# Altium footprint library 5040500591.PcbLib: 1 footprints
Each footprint in its own frame and in the unit in brackets; x right, y up, seen from the top. Pads: shape width x height; smd on the part's side, far side on the other; paste and mask are expansions set on the pad; w line width, h text height; cw(c..) or ccw(c..) is an arc to the next point about the centre after c.
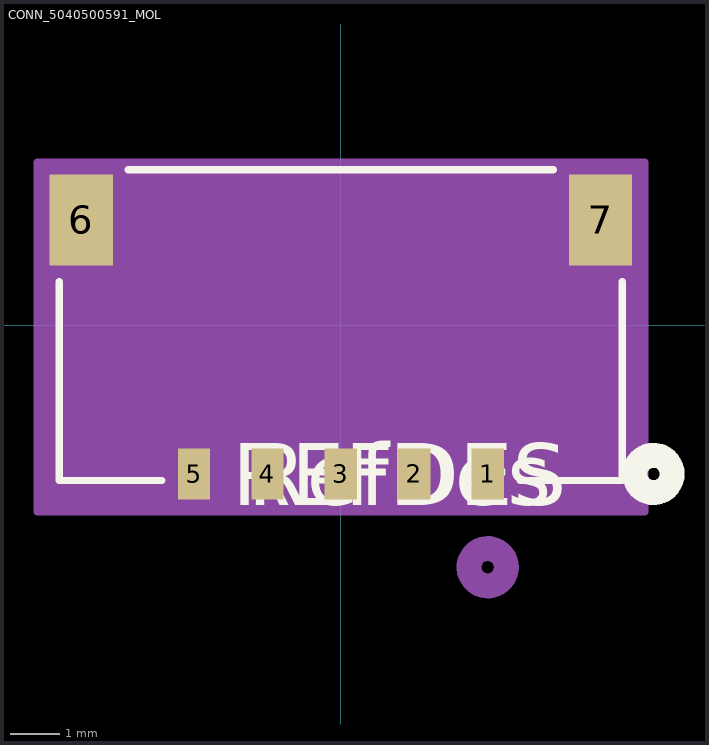
[diagram p0: the footprint, top view; thin cyan lines are the x and y axes]

## CONN_5040500591_MOL [mil]
pads (7):
  rect 26x41 smd paste+0 mask+0: 1(118.11,-119.76) 2(59.06,-119.76) 3(0,-119.76) 4(-59.06,-119.76) 5(-118.11,-119.76)
  rect 51x73 smd paste-36.5 mask-36.5: 6(-208.86,84.57) 7(208.86,84.57)
Top Overlay:
  circle w20: c251.5,-119.76 r15
  lines w6: -226.5,34.97 -226.5,-125 -144.21,-125 ; -170.86,125 170.86,125 ; 144.21,-125 226.5,-125 226.5,34.97
  text "RefDes" at -75,-144.76 h50
  text "REFDES" at -87.5,-144.76 h50
Bottom Overlay:
  circle w20: c251.5,-119.76 r15
Mechanical 13:
  circle w20: c118.11,-194.76 r15
  lines w1: -221.5,-120 221.5,-120 221.5,120 -221.5,120 -221.5,-120
  text "RefDes2" at -87.5,-144.76 h50
Mechanical 15:
  region: 244.36,131.07 -244.36,131.07 -244.36,-150.26 244.36,-150.26
  lines w6: -244.36,-150.26 -244.36,131.07 244.36,131.07 244.36,-150.26 -244.36,-150.26
3D body "5040500591.stp": height 0, standoff -78.74, extent -237.2,-135 237.2,118.54